# EAGLE library part 5406903-1-DUAL_RJ11 (library pimoroni-connectors)
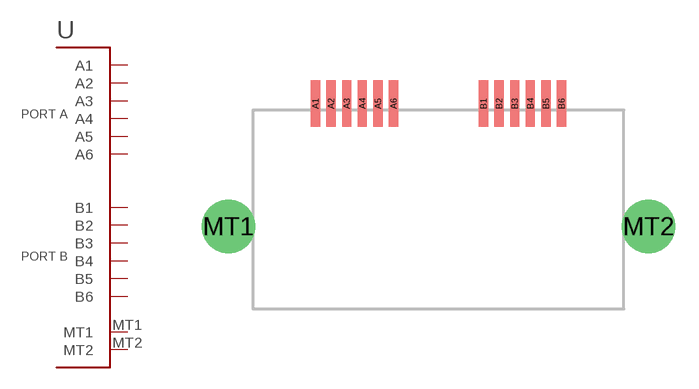
[diagram p23: symbol with the pads of RJ11-DUAL; footprint RJ11-DUAL]

Designator prefix -

## 5406903-1-DUAL_RJ11  [RJ11-DUAL]
A1  A1
A2  A2
A3  A3
A4  A4
A5  A5
A6  A6
B1  B1
B2  B2
B3  B3
B4  B4
B5  B5
B6  B6
MT1  MT1
MT2  MT2

## Footprint RJ11-DUAL (pad centres in mm)
smd 0.61 x 3.05: A1 -8.005,8; A2 -6.989,8; A3 -5.973,8; A4 -4.957,8; A5 -3.941,8; A6 -2.925,8; B1 2.925,8; B2 3.941,8; B3 4.957,8; B4 5.973,8; B5 6.989,8; B6 8.005,8
drill 1.27 pad 3.5: MT1 -13.665,0; MT2 13.665,0